# Altium footprint library MXM230.PcbLib: 1 footprints
Each footprint in its own frame and in the unit in brackets; x right, y up, seen from the top. Pads: shape width x height; smd on the part's side, far side on the other; paste and mask are expansions set on the pad; w line width, h text height; cw(c..) or ccw(c..) is an arc to the next point about the centre after c.
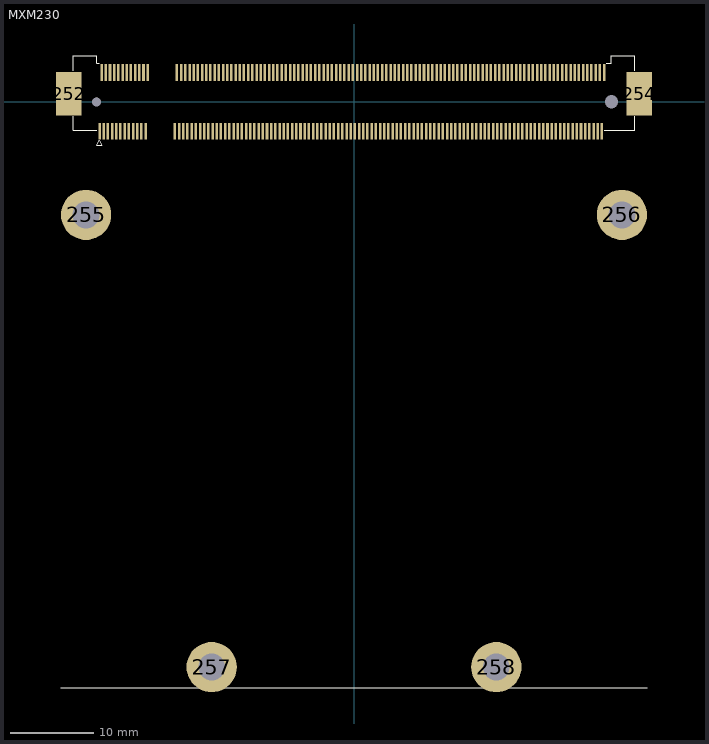
[diagram p0: the footprint, top view; thin cyan lines are the x and y axes]

## MXM230 [mm]
pads (238):
  rect 0.3x2 smd: 1(-30.39,-3.5) 2(-30.14,3.5) 3(-29.89,-3.5) 4(-29.64,3.5) 5(-29.39,-3.5) 6(-29.14,3.5) 7(-28.89,-3.5) 8(-28.64,3.5) 9(-28.39,-3.5) 10(-28.14,3.5) 11(-27.89,-3.5) 12(-27.64,3.5) 13(-27.39,-3.5) 14(-27.14,3.5) 15(-26.89,-3.5) 16(-26.64,3.5) 17(-26.39,-3.5) 18(-26.14,3.5) 19(-25.89,-3.5) 20(-25.64,3.5) 21(-25.39,-3.5) 22(-25.14,3.5) 23(-24.89,-3.5) 24(-24.64,3.5) 25(-21.39,-3.5) 26(-21.14,3.5) 27(-20.89,-3.5) 28(-20.64,3.5) 29(-20.39,-3.5) 30(-20.14,3.5) 31(-19.89,-3.5) 32(-19.64,3.5) 33(-19.39,-3.5) 34(-19.14,3.5) 35(-18.89,-3.5) 36(-18.64,3.5) 37(-18.39,-3.5) 38(-18.14,3.5) 39(-17.89,-3.5) 40(-17.64,3.5) 41(-17.39,-3.5) 42(-17.14,3.5) 43(-16.89,-3.5) 44(-16.64,3.5) 45(-16.39,-3.5) 46(-16.14,3.5) 47(-15.89,-3.5) 48(-15.64,3.5) 49(-15.39,-3.5) 50(-15.14,3.5) 51(-14.89,-3.5) 52(-14.64,3.5) 53(-14.39,-3.5) 54(-14.14,3.5) 55(-13.89,-3.5) 56(-13.64,3.5) 57(-13.39,-3.5) 58(-13.14,3.5) 59(-12.89,-3.5) 60(-12.64,3.5) 61(-12.39,-3.5) 62(-12.14,3.5) 63(-11.89,-3.5) 64(-11.64,3.5) 65(-11.39,-3.5) 66(-11.14,3.5) 67(-10.89,-3.5) 68(-10.64,3.5) 69(-10.39,-3.5) 70(-10.14,3.5) 71(-9.89,-3.5) 72(-9.64,3.5) 73(-9.39,-3.5) 74(-9.14,3.5) 75(-8.89,-3.5) 76(-8.64,3.5) 77(-8.39,-3.5) 78(-8.14,3.5) 79(-7.89,-3.5) 80(-7.64,3.5) 81(-7.39,-3.5) 82(-7.14,3.5) 83(-6.89,-3.5) 84(-6.64,3.5) 85(-6.39,-3.5) 86(-6.14,3.5) 87(-5.89,-3.5) 88(-5.64,3.5) 89(-5.39,-3.5) 90(-5.14,3.5) 91(-4.89,-3.5) 92(-4.64,3.5) 93(-4.39,-3.5) 94(-4.14,3.5) 95(-3.89,-3.5) 96(-3.64,3.5) 97(-3.39,-3.5) 98(-3.14,3.5) 99(-2.89,-3.5) 100(-2.64,3.5) 101(-2.39,-3.5) 102(-2.14,3.5) 103(-1.89,-3.5) 104(-1.64,3.5) 105(-1.39,-3.5) 106(-1.14,3.5) 107(-0.89,-3.5) 108(-0.64,3.5) 109(-0.39,-3.5) 110(-0.14,3.5) 111(0.11,-3.5) 112(0.36,3.5) 113(0.61,-3.5) 114(0.86,3.5) 115(1.11,-3.5) 116(1.36,3.5) 117(1.61,-3.5) 118(1.86,3.5) 119(2.11,-3.5) 120(2.36,3.5) 121(2.61,-3.5) 122(2.86,3.5) 123(3.11,-3.5) 124(3.36,3.5) 125(3.61,-3.5) 126(3.86,3.5) 127(4.11,-3.5) 128(4.36,3.5) 129(4.61,-3.5) 130(4.86,3.5) 131(5.11,-3.5) 132(5.36,3.5) 133(5.61,-3.5) 134(5.86,3.5) 135(6.11,-3.5) 136(6.36,3.5) 137(6.61,-3.5) 138(6.86,3.5) 139(7.11,-3.5) 140(7.36,3.5) 141(7.61,-3.5) 142(7.86,3.5) 143(8.11,-3.5) 144(8.36,3.5) 145(8.61,-3.5) 146(8.86,3.5) 147(9.11,-3.5) 148(9.36,3.5) 149(9.61,-3.5) 150(9.86,3.5) 151(10.11,-3.5) 152(10.36,3.5) 153(10.61,-3.5) 154(10.86,3.5) 155(11.11,-3.5) 156(11.36,3.5) 157(11.61,-3.5) 158(11.86,3.5) 159(12.11,-3.5) 160(12.36,3.5) 161(12.61,-3.5) 162(12.86,3.5) 163(13.11,-3.5) 164(13.36,3.5) 165(13.61,-3.5) 166(13.86,3.5) 167(14.11,-3.5) 168(14.36,3.5) 169(14.61,-3.5) 170(14.86,3.5) 171(15.11,-3.5) 172(15.36,3.5) 173(15.61,-3.5) 174(15.86,3.5) 175(16.11,-3.5) 176(16.36,3.5) 177(16.61,-3.5) 178(16.86,3.5) 179(17.11,-3.5) 180(17.36,3.5) 181(17.61,-3.5) 182(17.86,3.5) 183(18.11,-3.5) 184(18.36,3.5) 185(18.61,-3.5) 186(18.86,3.5) 187(19.11,-3.5) 188(19.36,3.5) 189(19.61,-3.5) 190(19.86,3.5) 191(20.11,-3.5) 192(20.36,3.5) 193(20.61,-3.5) 194(20.86,3.5) 195(21.11,-3.5) 196(21.36,3.5) 197(21.61,-3.5) 198(21.86,3.5) 199(22.11,-3.5) 200(22.36,3.5) 201(22.61,-3.5) 202(22.86,3.5) 203(23.11,-3.5) 204(23.36,3.5) 205(23.61,-3.5) 206(23.86,3.5) 207(24.11,-3.5) 208(24.36,3.5) 209(24.61,-3.5) 210(24.86,3.5) 211(25.11,-3.5) 212(25.36,3.5) 213(25.61,-3.5) 214(25.86,3.5) 215(26.11,-3.5) 216(26.36,3.5) 217(26.61,-3.5) 218(26.86,3.5) 219(27.11,-3.5) 220(27.36,3.5) 221(27.61,-3.5) 222(27.86,3.5) 223(28.11,-3.5) 224(28.36,3.5) 225(28.61,-3.5) 226(28.86,3.5) 227(29.11,-3.5) 228(29.36,3.5) 229(29.61,-3.5) 230(29.86,3.5)
  round 1 hole 1.6 unplated: 250(30.75,0)
  round 1 hole 1.1 unplated: 251(-30.75,0)
  rect 3x5.15 smd: 252(-34.06,0.975) 254(34.06,0.975)
  round 6 / inner round 5 / far side round 5 hole 3.2 unplated: 255(-32,-13.5) 256(32,-13.5) 257(-17,-67.5) 258(17,-67.5)
Top Overlay:
  lines w0.1: -35,-70 35,-70 ; -33.55,-1.7 -33.55,-3.4 -30.7,-3.4 ; -33.55,3.7 -33.55,5.5 -30.75,5.5 -30.75,4.6 -30.4,4.6 ; 29.9,-3.4 33.55,-3.4 33.55,-1.7 ; 30.1,4.6 30.75,4.6 30.75,5.5 33.55,5.5 33.55,3.7 ; -30.7,-5.2 -30.1,-5.2 -30.4,-4.6 -30.7,-5.2